# EAGLE library part MMA6900_QFN16 (library Freescale_Sensors_v2)
Xtrinsic MMA690xKq High Accuracy Low g Inertial Sensor SPI-compatible serial interface 16-LEAD QFN 6 mm x 6 mm x 1.98 mm 1 mm Pitch CASE 1477-02 http://cache.freescale.com/files/sensors/doc/data_sheet/MMA69XX.pdf
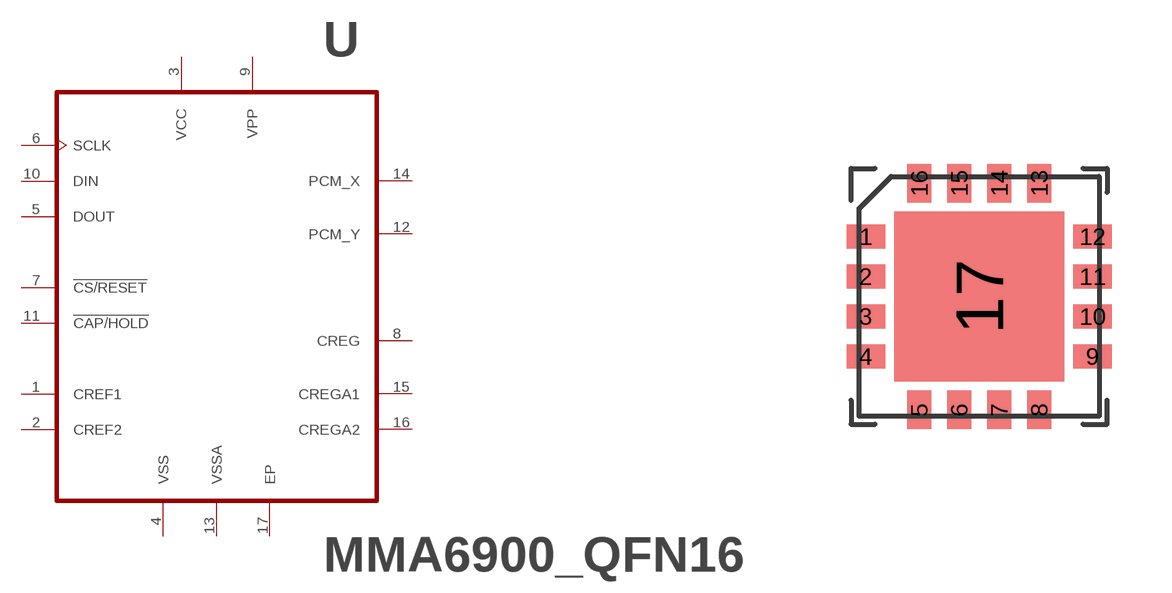
[diagram p6: symbol with the pads of QFN16; footprint QFN16]

Designator prefix -

## MMA6900_QFN16  [QFN16]
1  CREF1
2  CREF2
3  VCC
4  VSS
5  DOUT
6  SCLK
7  !CS/RESET
8  CREG
9  VPP
10  DIN
11  !CAP/HOLD
12  PCM_Y
13  VSSA
14  PCM_X
15  CREGA1
16  CREGA2
17  EP

## Footprint QFN16 (pad centres in mm)
smd 0.965 x 0.61: 1 -2.835,1.5; 2 -2.835,0.5; 3 -2.835,-0.5; 4 -2.835,-1.5; 9 2.835,-1.5; 10 2.835,-0.5; 11 2.835,0.5; 12 2.835,1.5
smd 0.61 x 0.965: 5 -1.5,-2.835; 6 -0.5,-2.835; 7 0.5,-2.835; 8 1.5,-2.835; 13 1.5,2.835; 14 0.5,2.835; 15 -0.5,2.835; 16 -1.5,2.835
smd 4.242 x 4.242: 17 0,0